# EAGLE library part SW_ROT_2P6T_71BFD (library wheat)
swicth, 2p 6t rotary, rapc, grayhill 71BDF
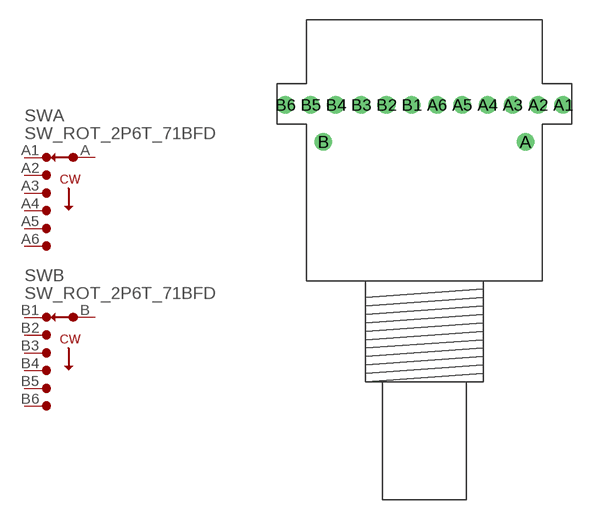
[diagram p120: symbol with the pads of SW_71BFD-01; footprint SW_71BFD-01]

Designator prefix SW; gates A=SW_1P6T B=SW_1P6T

## SW_ROT_2P6T_71BFD  [SW_71BFD-01]
A  A:C  pas
A1  A:1  pas
A2  A:2  pas
A3  A:3  pas
A4  A:4  pas
A5  A:5  pas
A6  A:6  pas
B  B:C  pas
B1  B:1  pas
B2  B:2  pas
B3  B:3  pas
B4  B:4  pas
B5  B:5  pas
B6  B:6  pas

## Footprint SW_71BFD-01 (pad centres in mm)
rotary switch, grayhill 71bdf-01
drill 0.813 pad 1.321: A 7.62,10.465; A1 10.477,13.259; A2 8.572,13.259; A3 6.668,13.259; A4 4.763,13.259; A5 2.857,13.259; A6 0.953,13.259; B -7.62,10.465; B1 -0.953,13.259; B2 -2.857,13.259; B3 -4.763,13.259; B4 -6.668,13.259; B5 -8.572,13.259; B6 -10.477,13.259